# Altium footprint library 通信模块.PcbLib: 2 footprints
Each footprint in its own frame and in the unit in brackets; x right, y up, seen from the top. Pads: shape width x height; smd on the part's side, far side on the other; paste and mask are expansions set on the pad; w line width, h text height; cw(c..) or ccw(c..) is an arc to the next point about the centre after c.
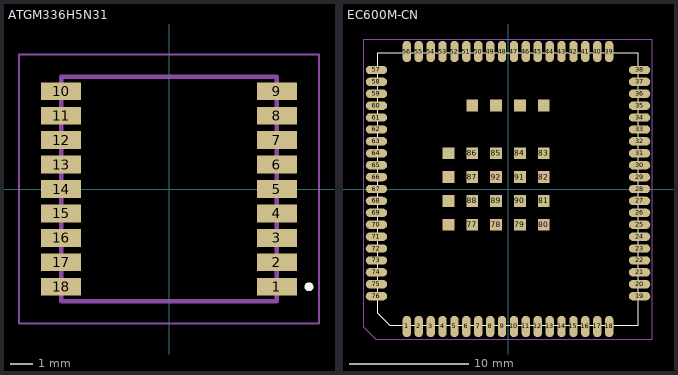
[diagram p0: the footprints below, top view; thin cyan lines are the x and y axes]

## ATGM336H5N31 [mm]
pads (18):
  rect 1.8x0.8 smd: 1(4.85,-4.4) 2(4.85,-3.3) 3(4.85,-2.2) 4(4.85,-1.1) 5(4.85,0) 6(4.85,1.1) 7(4.85,2.2) 8(4.85,3.3) 9(4.85,4.4) 10(-4.85,4.4) 11(-4.85,3.3) 12(-4.85,2.2) 13(-4.85,1.1) 14(-4.85,0) 15(-4.85,-1.1) 16(-4.85,-2.2) 17(-4.85,-3.3) 18(-4.85,-4.4)
Top Overlay:
  lines w0.2: 6.2,-4.4 cw(c6.3,-4.4) 6.4,-4.4 cw(c6.3,-4.4) 6.2,-4.4
Mechanical 13:
  lines w0.2: -4.85,-5.05 -4.85,5.05 4.85,5.05 4.85,-5.05 -4.85,-5.05
Mechanical 15:
  lines w0.1: -6.75,-6.05 -6.75,6.05 6.75,6.05 6.75,-6.05 -6.75,-6.05
3D body "ATGM336H-5N31.stp": height 2.4, standoff 0, extent -4.85,-5.05 4.85,5.05

## EC600M-CN [mm] "EC600M-CN Module 76LCC 24LGA 21.9×22.9mm H2.4mm RO"
height 2.4
pads (100):
  oval 0.7x1.8 smd mask+0.05: 1(-8.5,-11.55) 2(-7.5,-11.55) 3(-6.5,-11.55) 4(-5.5,-11.55) 5(-4.5,-11.55) 6(-3.5,-11.55) 7(-2.5,-11.55) 8(-1.5,-11.55) 9(-0.5,-11.55) 10(0.5,-11.55) 11(1.5,-11.55) 12(2.5,-11.55) 13(3.5,-11.55) 14(4.5,-11.55) 15(5.5,-11.55) 16(6.5,-11.55) 17(7.5,-11.55) 18(8.5,-11.55) 39(8.5,11.55) 40(7.5,11.55) 41(6.5,11.55) 42(5.5,11.55) 43(4.5,11.55) 44(3.5,11.55) 45(2.5,11.55) 46(1.5,11.55) 47(0.5,11.55) 48(-0.5,11.55) 49(-1.5,11.55) 50(-2.5,11.55) 51(-3.5,11.55) 52(-4.5,11.55) 53(-5.5,11.55) 54(-6.5,11.55) 55(-7.5,11.55) 56(-8.5,11.55)
  oval 1.8x0.7 smd mask+0.05: 19(11.05,-9) 20(11.05,-8) 21(11.05,-7) 22(11.05,-6) 23(11.05,-5) 24(11.05,-4) 25(11.05,-3) 26(11.05,-2) 27(11.05,-1) 28(11.05,0) 29(11.05,1) 30(11.05,2) 31(11.05,3) 32(11.05,4) 33(11.05,5) 34(11.05,6) 35(11.05,7) 36(11.05,8) 37(11.05,9) 38(11.05,10) 57(-11.05,10) 58(-11.05,9) 59(-11.05,8) 60(-11.05,7) 61(-11.05,6) 62(-11.05,5) 63(-11.05,4) 64(-11.05,3) 65(-11.05,2) 66(-11.05,1) 67(-11.05,0) 68(-11.05,-1) 69(-11.05,-2) 70(-11.05,-3) 71(-11.05,-4) 72(-11.05,-5) 73(-11.05,-6) 74(-11.05,-7) 75(-11.05,-8) 76(-11.05,-9)
  rect 1x1 smd mask+0.05: 77(-3,-3) 78(-1,-3) 79(1,-3) 80(3,-3) 81(3,-1) 82(3,1) 83(3,3) 84(1,3) 85(-1,3) 86(-3,3) 87(-3,1) 88(-3,-1) 89(-1,-1) 90(1,-1) 91(1,1) 92(-1,1) 109(-5,3) 110(-5,1) 111(-5,-1) 112(-5,-3) 145(3,7) 146(1,7) 147(-1,7) 148(-3,7)
Top Overlay:
  lines w0.1: -10.95,-10.45 -10.95,11.45 10.95,11.45 10.95,-11.45 -9.95,-11.45 -10.95,-10.45
Mechanical 1:
  lines w0.01: -12.1,-11.6 -11.1,-12.6 12.1,-12.6 12.1,12.6 -12.1,12.6 -12.1,-11.6